# Altium footprint library MotionClock.PcbLib: 19 footprints (part 1 of 2)
Each footprint in its own frame and in the unit in brackets; x right, y up, seen from the top. Pads: shape width x height; smd on the part's side, far side on the other; paste and mask are expansions set on the pad; w line width, h text height; cw(c..) or ccw(c..) is an arc to the next point about the centre after c.
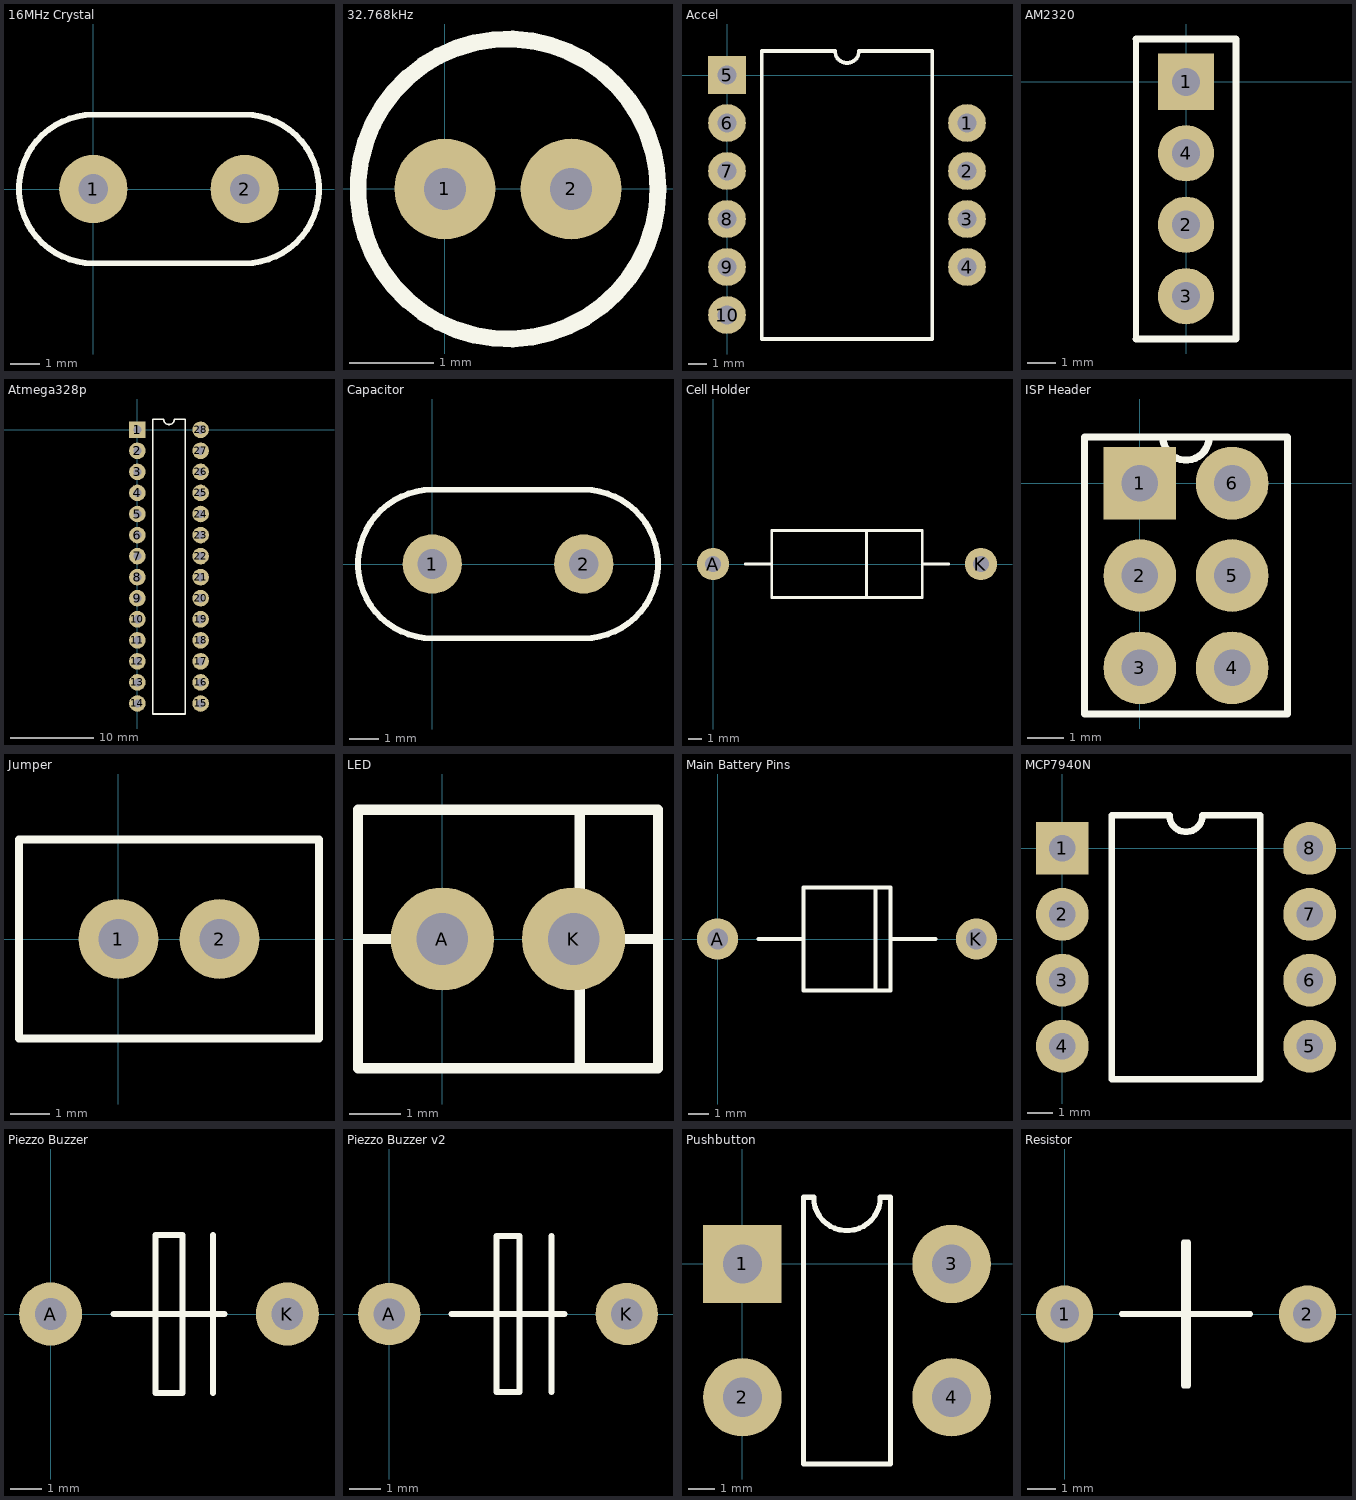
[diagram p0: the footprints below, top view; thin cyan lines are the x and y axes]

## 16MHz Crystal [mm]
pads (2):
  round 2.3 hole 1: 1(0,0) 2(5.1,0)
Top Overlay:
  lines w0.2: 0,-2.5 cw(c0,0) 0,2.5 5.1,2.5 cw(c5.1,0) 5.1,-2.5 0,-2.5

## 32.768kHz [mm]
pads (2):
  round 1.2 hole 0.5: 1(0,0) 2(1.5,0)
Top Overlay:
  circle w0.2: c0.75,0 r1.784

## Accel [mm]
pads (10):
  round 2 hole 1: 1(12.7,-2.54) 2(12.7,-5.08) 3(12.7,-7.62) 4(12.7,-10.16) 6(0,-2.54) 7(0,-5.08) 8(0,-7.62) 9(0,-10.16) 10(0,-12.7)
  rect 2x2 hole 1: 5(0,0)
Top Overlay:
  lines w0.2: 1.835,-13.97 1.835,1.27 5.715,1.27 ccw(c6.35,1.27) 6.985,1.27 10.865,1.27 10.865,-13.97 1.835,-13.97

## AM2320 [mm]
pads (4):
  rect 2x2 hole 1: 1(0,0)
  round 2 hole 1: 2(0,-5.08) 3(0,-7.62) 4(0,-2.54)
Top Overlay:
  lines w0.2: -1.778,-9.144 -1.778,1.524
  lines w0.254: -1.778,-9.144 1.778,-9.144 1.778,1.524 -1.778,1.524

## Atmega328p [mm]
pads (28):
  rect 2x2 hole 1: 1(0,0)
  round 2 hole 1: 2(0,-2.54) 3(0,-5.08) 4(0,-7.62) 5(0,-10.16) 6(0,-12.7) 7(0,-15.24) 8(0,-17.78) 9(0,-20.32) 10(0,-22.86) 11(0,-25.4) 12(0,-27.94) 13(0,-30.48) 14(0,-33.02) 15(7.62,-33.02) 16(7.62,-30.48) 17(7.62,-27.94) 18(7.62,-25.4) 19(7.62,-22.86) 20(7.62,-20.32) 21(7.62,-17.78) 22(7.62,-15.24) 23(7.62,-12.7) 24(7.62,-10.16) 25(7.62,-7.62) 26(7.62,-5.08) 27(7.62,-2.54) 28(7.62,0)
Top Overlay:
  lines w0.2: 1.835,-34.29 1.835,1.27 3.175,1.27 ccw(c3.81,1.27) 4.445,1.27 5.785,1.27 5.785,-34.29 1.835,-34.29

## Capacitor [mm]
pads (2):
  round 2 hole 1: 1(0,0) 2(5.1,0)
Top Overlay:
  lines w0.2: 0,-2.5 cw(c0,0) 0,2.5 5.1,2.5 cw(c5.1,0) 5.1,-2.5 0,-2.5

## Cell Holder [mm]
pads (2):
  round 2.4 hole 1.2: A(0,0) K(20,0)
Top Overlay:
  lines w0.2: 2.4,0 4.375,0 ; 11.458,-2.5 11.458,2.5 ; 15.625,0 17.6,0 ; 4.375,0 4.375,-2.5 15.625,-2.5 15.625,2.5 4.375,2.5 4.375,0

## ISP Header [mm]
pads (6):
  rect 2x2 hole 1: 1(0,0)
  round 2 hole 1: 2(0,-2.54) 3(0,-5.08) 4(2.54,-5.08) 5(2.54,-2.54) 6(2.54,0)
Top Overlay:
  lines w0.2: -1.524,-6.35 -1.524,1.27 1.905,1.27 cw(c1.27,1.27) 0.635,1.27 4.064,1.27 4.064,-6.35 -1.524,-6.35

## Jumper [mm]
pads (2):
  round 2 hole 1: 1(0,0) 2(2.54,0)
Top Overlay:
  lines w0.2: -2.5,-2.5 0,-2.5 2.54,-2.5 5.04,-2.5 5.04,2.5 2.54,2.5 0,2.5 -2.5,2.5 -2.5,-2.5

## LED [mm]
pads (2):
  round 2 hole 1: A(0,0) K(2.54,0)
Top Overlay:
  lines w0.2: -1.635,0 0.54,0 ; 2,0 4.175,0 ; 2.662,-2.5 2.662,2.5 ; 4.175,0 4.175,-2.5 -1.635,-2.5 -1.635,2.5 4.175,2.5 4.175,0

## Main Battery Pins [mm]
pads (2):
  round 2 hole 1: A(0,0) K(12.6,0)
Top Overlay:
  lines w0.2: 2,0 4.175,0 ; 7.692,-2.5 7.692,2.5 ; 8.425,0 10.6,0 ; 4.175,0 4.175,-2.5 8.425,-2.5 8.425,2.5 4.175,2.5 4.175,0

## MCP7940N [mil]
pads (8):
  rect 80x80 hole 40: 1(0,0)
  round 80 hole 40: 2(0,-100) 3(0,-200) 4(0,-300) 5(375,-300) 6(375,-200) 7(375,-100) 8(375,0)
Top Overlay:
  lines w10: 75,-350 75,50 162.5,50 ccw(c187.5,50) 212.5,50 300,50 300,-350 75,-350

## Piezzo Buzzer [mm]
pads (2):
  round 2 hole 1: A(0,0) K(7.5,0)
Top Overlay:
  lines w0.2: 2,0 4.175,0 ; 3.325,0 5.5,0 ; 5.142,-2.5 5.142,2.5 ; 4.175,0 4.175,2.5 3.325,2.5 3.325,-2.5 4.175,-2.5 4.175,0

## Piezzo Buzzer v2 [mm]
pads (2):
  round 2 hole 1: A(0,0) K(7.62,0)
Top Overlay:
  lines w0.2: 2,0 4.175,0 ; 3.445,0 5.62,0 ; 5.202,-2.5 5.202,2.5 ; 4.175,0 4.175,2.5 3.445,2.5 3.445,-2.5 4.175,-2.5 4.175,0

## Pushbutton [mm]
pads (4):
  rect 3x3 hole 1.5: 1(0,0)
  round 3 hole 1.5: 2(0,-5.1) 3(8,0) 4(8,-5.1)
Top Overlay:
  lines w0.2: 2.335,-7.65 2.335,2.55 2.725,2.55 ccw(c4,2.55) 5.275,2.55 5.665,2.55 5.665,-7.65 2.335,-7.65

## Resistor [mm]
pads (2):
  round 2 hole 1: 1(0,0) 2(8.5,0)
Top Overlay:
  lines w0.2: 2,0 4.175,0 ; 4.325,0 6.5,0 ; 4.175,0 4.175,-2.5 4.325,-2.5 4.325,2.5 4.175,2.5 4.175,0